# Altium schematic symbol library miniMMC_v2.SchLib: 21 symbols
Pins are listed as number, name and electrical type; pins without a type are passive.

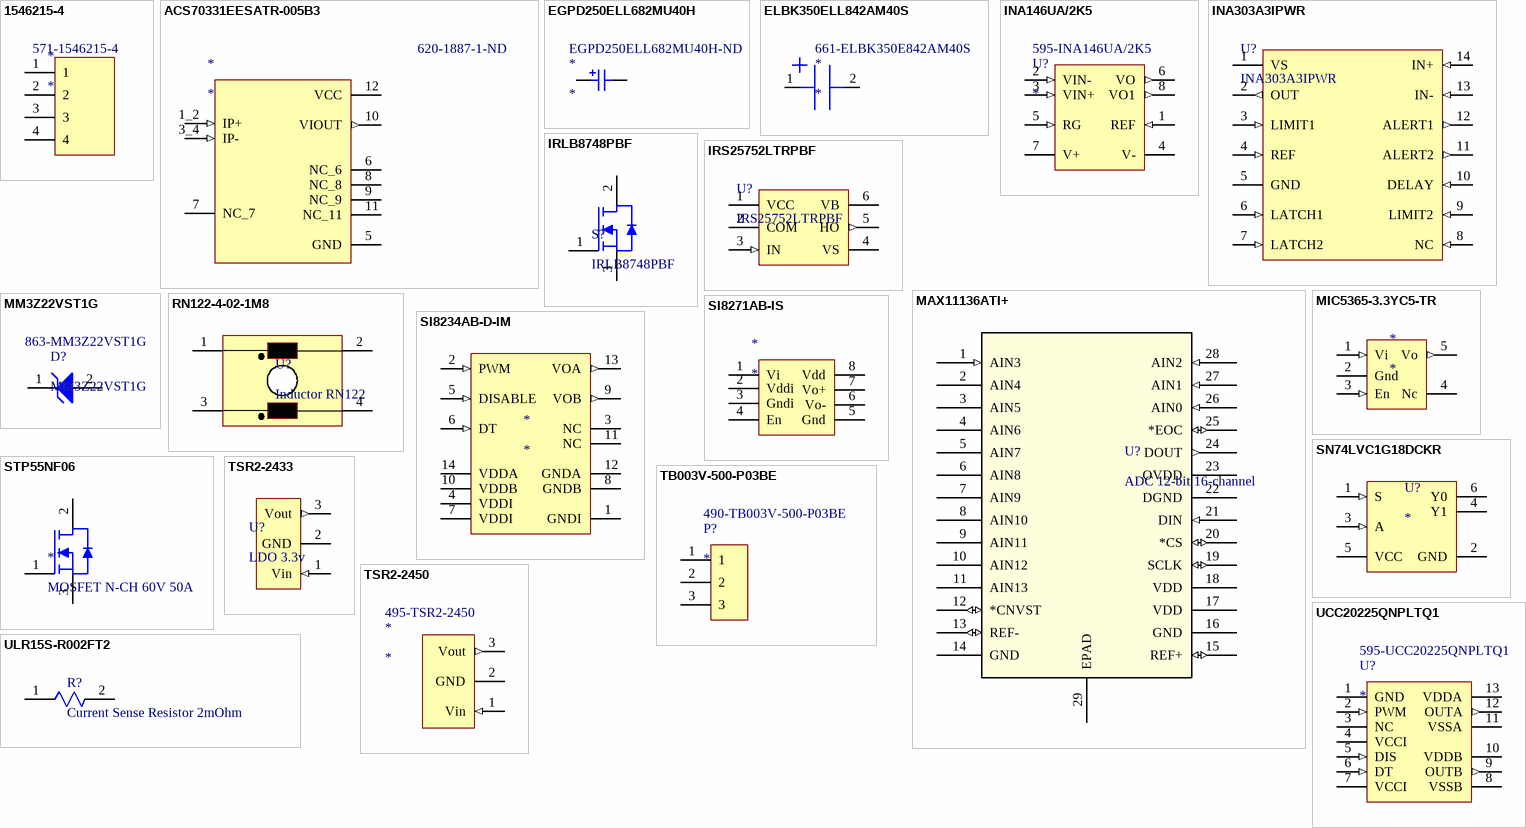
[diagram p0: symbols 1546215-4 to ULR15S-R002FT2]

## 1546215-4
designator *  Supplier Part Number 1: 571-1546215-4
Fixed Terminal Blocks TERMI-BLOK PCB MOUNT, 90 4P.; Manufacturer 1: TE Connectivity; Manufacturer Part Number 1: 1546215-4; Plating: Brass; Voltage Rating: 150V; Number of Positions: 4; Number of Levels: 1; Current: 10A; Connector Type: Receptacle; Closed End: No (Without); Max Supply Voltage (AC): 125V; Wire Gauge (Max): 30AWG; Pitch: 2.54mm; Tail Length: 3.4mm; Thread Size: M1.6; Supplier 1: Mouser; Stock 1: 1379; Pricing 1: 1=2.41000, 10=1.82000, 50=1.52000, 100=1.48000, 1000=1.07000, 10000=0.96600 (USD); RoHS: Yes; Mount: Through Hole; Color: Grey; Contact Plating: Tin; Contact Material: Brass; Housing Color: Grey; Housing Material: Polyamide; Min Operating Temperature: -40°C; Max Operating Temperature: 105°C; Package Quantity: 150; Number of Rows: 1; Packaging: Bulk; Number of Positions Per Level: 4; Voltage: 150V; Termination: Solder; Number of Circuits: 4; Number of Contacts: 4; Orientation: Straight; Max Current Rating: 10A; Interlock: No (Without); Screw Flange: No (Without); Screwless Terminal Block: No (Without); Side Stackable: No (Without); Current Rating: 10A; Length: 10.62mm; Wire Gauge (Min): 30AWG; Depth: 6.5mm; Radiation Hardening: No; ELV: Compliant; Flammability Rating: UL94 V-0; ComponentLink1URL: http://components.arrow.com/part/dataview/42525363S9094200N5665?src-supplier=Arrow; ComponentLink1Description: http://components.arrow.com/part/dataview/42525363S9094200N5665?src-supplier=Arrow; ComponentLink2URL: http://www.te.com/commerce/DocumentDelivery/DDEController?Action=srchrtrv&DocNm=1546215&DocType=Customer+Drawing&DocLang=English&src-supplier=Digi-Key; ComponentLink2Description: http://www.te.com/commerce/DocumentDelivery/DDEController?Action=srchrtrv&DocNm=1546215&DocType=Customer+Drawing&DocLang=English&src-supplier=Digi-Key; ComponentLink3URL: http://www.te.com/catalog/pn/en/1546215-4?RQPN=1546215-4&src-supplier=Mouser; ComponentLink3Description: http://www.te.com/catalog/pn/en/1546215-4?RQPN=1546215-4&src-supplier=Mouser; ComponentLink4URL: http://www.te.com/commerce/DocumentDelivery/DDEController?Action=showdoc&DocId=Catalog+Section%7F1308389_EUROSTYLE_TERMINAL_BLOCKS%7F0607%7Fpdf%7FEnglish%7FENG_CS_1308389_EUROSTYLE_TERMINAL_BLOCKS_0607.pdf&src-supplier=Avnet; ComponentLink4Description: http://www.te.com/commerce/DocumentDelivery/DDEController?Action=showdoc&DocId=Catalog+Section%7F1308389_EUROSTYLE_TERMINAL_BLOCKS%7F0607%7Fpdf%7FEnglish%7FENG_CS_1308389_EUROSTYLE_TERMINAL_BLOCKS_0607.pdf&src-supplier=Avnet
footprint 1546215-4 (Fixed Terminal Blocks TERMI-BLOK PCB MOUNT, 90 4P)
pins: 1, 2, 3, 4

## ACS70331EESATR-005B3
designator *  Supplier Part Number 1: 620-1887-1-ND
HIGH SENSITIVITY, 1 MHZ, GMR-BAS; Manufacturer 1: Allegro MicroSystems; Manufacturer Part Number 1: ACS70331EESATR-005B3; Supplier 1: Digi-Key; Stock 1: 2151; Pricing 1: 1=1.61000, 10=1.43600, 25=1.36280, 100=1.11940, 250=1.04636, 500=0.92468 (USD); RoHS: No; ComponentLink1URL: https://www.allegromicro.com/~/media/Files/Datasheets/ACS70331-Datasheet.ashx?src-supplier=Digi-Key; ComponentLink1Description: https://www.allegromicro.com/~/media/Files/Datasheets/ACS70331-Datasheet.ashx?src-supplier=Digi-Key
footprint ACS70331EESATR-005B3 (Current Sensor Current Sensor AC/DC Current 12-Pin QFN EP T/R)
pins: 1_2 IP+ (in), 3_4 IP- (in), 5 GND (power), 6 NC_6, 7 NC_7, 8 NC_8, 9 NC_9, 10 VIOUT (out), 11 NC_11, 12 VCC (power)

## EGPD250ELL682MU40H
designator *  Supplier Part Number 1: EGPD250ELL682MU40H-ND
Aluminum Electrolytic Capacitors - Leaded 25V 6800uF 20% Tol.; Manufacturer 1: United Chemi-Con; Manufacturer Part Number 1: EGPD250ELL682MU40H; Capacitance: 6.8mF; ESR (Equivalent Series Resistance): 22mR; Ripple Current: 3.73A; Life (Hours): 3000Hour; Lead/Base Style: Straight; Supplier 1: Digi-Key; Stock 1: 0; Pricing 1: 500=1.62532 (USD); RoHS: Yes; Mount: Through Hole; Case/Package: Radial; Min Operating Temperature: -40°C; Max Operating Temperature: 135°C; Package Quantity: 500; Packaging: Bulk; Voltage Rating: 25V; Tolerance: 20%; Termination: Radial; Voltage Rating (DC): 25V; Diameter: 14.5mm; Length: 40mm; Height: 14.5mm; Lead Pitch: 0.295inch; Height - Seated (Max): 1.634inch; Width: 14.5mm; ComponentLink1URL: http://www.mouser.com/ds/2/420/UCC_GPDDatasheet-340715.pdf?src-supplier=Mouser; ComponentLink1Description: http://www.mouser.com/ds/2/420/UCC_GPDDatasheet-340715.pdf?src-supplier=Mouser; ComponentLink2URL: http://www.chemi-con.co.jp/cgi-bin/CAT_DB/SEARCH/cat_db_al.cgi?e=e&j=p&pdfname=gpd&src-supplier=Digi-Key; ComponentLink2Description: http://www.chemi-con.co.jp/cgi-bin/CAT_DB/SEARCH/cat_db_al.cgi?e=e&j=p&pdfname=gpd&src-supplier=Digi-Key
footprint EGPD250ELL682MU40H (6800µF 25V Aluminum Electrolytic Capacitors Radial, Can 22mOhm @ 100kHz 3000 Hrs @ 135°C)
pins: 1, 2

## ELBK350ELL842AM40S
designator *  Supplier Part Number 1: 661-ELBK350E842AM40S
CAP POLY 8400UF 35V T/H; Manufacturer 1: United Chemi-Con; Manufacturer Part Number 1: ELBK350ELL842AM40S; Capacitance: 8.4mF; Tolerance: 30%; ESR (Equivalent Series Resistance): 15mR; Polarity: Polar; Ripple Current: 3.4A; Life (Hours): 5000Hour; Supplier 1: Mouser; Stock 1: 374; Pricing 1: 1=4.18000, 10=3.37000, 25=3.04000, 50=3.04000, 100=2.29000, 250=2.16000, 500=1.89000, 1000=1.82000, 2500=1.75000, 5000=1.72000, 10000=1.75000 (USD); RoHS: Yes; Mount: Through Hole; Case/Package: Radial; Min Operating Temperature: -55°C; Max Operating Temperature: 105°C; Package Quantity: 250; Packaging: Bulk; Voltage Rating: 35V; Lead Pitch: 0.295inch; Height - Seated (Max): 1.634inch; ComponentLink1URL: http://www.chemi-con.co.jp/cgi-bin/CAT_DB/SEARCH/cat_db_al.cgi?e=e&j=p&pdfname=lbk&src-supplier=Digi-Key; ComponentLink1Description: http://www.chemi-con.co.jp/cgi-bin/CAT_DB/SEARCH/cat_db_al.cgi?e=e&j=p&pdfname=lbk&src-supplier=Digi-Key
footprint ELBK350ELL842AM40S (Aluminium Electrolytic Capacitors - Radial Leaded 35V 8400uF +30%)
pins: 1, 2

## INA146UA/2K5
designator U?  Supplier Part Number 1: 595-INA146UA/2K5
IC OPAMP DIFF 550KHZ SGL 8SOIC; Manufacturer 1: Texas Instruments; Manufacturer Part Number 1: INA146UA/2K5; Min Dual Supply Voltage: 2.25V; Max Dual Supply Voltage: 18V; Common Mode Rejection Ratio: 70dB; Number of Channels: 1; Slew Rate: 0.45V/µs; Max Supply Voltage: 36V; Min Supply Voltage: 2.7V; Input Bias Current: 50nA; Input Offset Voltage (Vos): 10mV; Number of Elements: 2; Voltage Gain: 40dB; Nominal Supply Current: 700uA; Input Resistance: 110kR; Quiescent Current: 600uA; Operating Supply Current: 570uA; Output Current per Channel: 15mA; Max Input Voltage: 100V; Min Input Voltage: -100V; Supplier 1: Mouser; Stock 1: 1702; Pricing 1: 1=4.52000, 10=4.07000, 50=4.07000, 100=3.33000, 1000=2.39000, 10000=2.27000 (USD); RoHS: Yes; Case/Package: D; Number of Pins: 8; Weight: 0.002677oz; Min Operating Temperature: -40°C; Max Operating Temperature: 85°C; Packaging: Tape and Reel; Package Quantity: 2500; Number of Circuits: 1; Bandwidth: 550kHz; -3db Bandwidth: 550kHz; Radiation Hardening: No; Lead Free: Lead Free; ComponentLink1URL: https://datasheet.ciiva.com/15128/getdatasheetpartid-331066-15128765.pdf?src-supplier=Verical; ComponentLink1Description: https://datasheet.ciiva.com/15128/getdatasheetpartid-331066-15128765.pdf?src-supplier=Verical; ComponentLink2URL: https://datasheet.ciiva.com/2977/ina146-2977859.pdf?src-supplier=Avnet; ComponentLink2Description: https://datasheet.ciiva.com/2977/ina146-2977859.pdf?src-supplier=Avnet; ComponentLink3URL: https://datasheet.ciiva.com/1815/ina146-1815719.pdf?src-supplier=Digi-Key; ComponentLink3Description: https://datasheet.ciiva.com/1815/ina146-1815719.pdf?src-supplier=Digi-Key; ComponentLink4URL: https://datasheet.ciiva.com/26191/sbos109-26191114.pdf?src-supplier=Avnet+Europe; ComponentLink4Description: https://datasheet.ciiva.com/26191/sbos109-26191114.pdf?src-supplier=Avnet+Europe
footprint INA146UA/2K5
pins: 1 REF (in), 2 VIN- (in), 3 VIN+ (in), 4 V- (power), 5 RG (in), 6 VO (out), 7 V+ (power), 8 VO1 (out)

## INA303A3IPWR
designator U?
IC CURRENT SENSING AMP 14TSSOP; Manufacturer: Texas Instruments; Number of Channels: 2; Supplier 1: Digi-Key; Supplier Part Number 1: 296-51181-1-ND; Manufacturer Part Number: INA303A3IPWR; Stock 1: 1850; Pricing 1: 1 = 2.88000, 10 = 2.58900, 100 = 2.12100, 500 = 1.80554, 1000 = 1.52275 (USD); RoHS: No; Min Operating Temperature: -40°C; Max Operating Temperature: 125°C
footprint SOP127P600-8N (INA303A3IPWR  IC CURRENT SENSING AMP 14TSSOP)
pins: 1 VS (power), 2 OUT (out), 3 LIMIT1 (in), 4 REF (in), 5 GND, 6 LATCH1 (in), 7 LATCH2 (in), 8 NC (in), 9 LIMIT2 (in), 10 DELAY (in), 11 ALERT2 (out), 12 ALERT1 (out), 13 IN- (in), 14 IN+ (in)

## IRLB8748PBF
designator S?
Trans MOSFET N-CH 30V 92A 3-Pin(3+Tab) TO-220AB Tube; Manufacturer: International Rectifier; Rise Time: 96ns; Gate to Source Voltage (Vgs): 20V; Turn-On Delay Time: 14ns; Turn-Off Delay Time: 16ns; Fall Time: 34ns; Input Capacitance: 2.139nF; Max Power Dissipation: 75W; Rds On Max: 4.8mR; Drain to Source Resistance: 6.8mR; Nominal Vgs: 1.8V; Recovery Time: 35ns; Number of Elements: 1; Element Configuration: Single; Supplier 1: Mouser; Supplier Part Number 1: 942-IRLB8748PBF; Manufacturer Part Number: IRLB8748PBF; Stock 1: 3800; Pricing 1: 1 = 0.90000, 10 = 0.77000, 50 = 0.77000, 100 = 0.59200, 1000 = 0.41300, 10000 = 0.41300 (USD); RoHS: Yes; Mount: Through Hole; Case/Package: TO-220AB; Number of Pins: 3; Min Operating Temperature: -55°C; Max Operating Temperature: 175°C; Continuous Drain Current (ID): 92A; Packaging: Rail/Tube; Package Quantity: 50; Drain to Source Breakdown Voltage: 30V; Drain to Source Voltage (Vdss): 30V; Dual Supply Voltage: 30V; Power Dissipation: 75W; Termination: Through Hole; On-State Resistance: 4.8MR; Length: 10.67mm; Height: 16.51mm; Width: 4.83mm; REACH SVHC: No SVHC; Lead Free: Lead Free; ComponentLink1URL: https://datasheet.ciiva.com/14170/irlb8748pbf-eng-tds-14170629.pdf?src-supplier=Distrelec; ComponentLink1Description: https://datasheet.ciiva.com/14170/irlb8748pbf-eng-tds-14170629.pdf?src-supplier=Distrelec; ComponentLink2URL: https://datasheet.ciiva.com/4441/irlb8748pbf-50123-4441243.pdf?src-supplier=Mouser; ComponentLink2Description: https://datasheet.ciiva.com/4441/irlb8748pbf-50123-4441243.pdf?src-supplier=Mouser; ComponentLink3URL: https://datasheet.ciiva.com/26790/irlb8748pbf-26790238.pdf?src-supplier=IIIC; ComponentLink3Description: https://datasheet.ciiva.com/26790/irlb8748pbf-26790238.pdf?src-supplier=IIIC; ComponentLink4URL: https://datasheet.ciiva.com/7870/irlb8748pbf-7870437.pdf?src-supplier=Element14; ComponentLink4Description: https://datasheet.ciiva.com/7870/irlb8748pbf-7870437.pdf?src-supplier=Element14; ComponentLink5URL: https://datasheet.ciiva.com/6371/irlb8748pbf-6371532.pdf?src-supplier=Digi-Key; ComponentLink5Description: https://datasheet.ciiva.com/6371/irlb8748pbf-6371532.pdf?src-supplier=Digi-Key; ComponentLink6URL: https://datasheet.ciiva.com/8116/irlb8748pbf-8116749.pdf?src-supplier=Avnet; ComponentLink6Description: https://datasheet.ciiva.com/8116/irlb8748pbf-8116749.pdf?src-supplier=Avnet
footprint IRLB8748PBF
pins: 1, 2, 3

## IRS25752LTRPBF
designator U?
IC GATE DRIVER 1CH 600V SOT23; Manufacturer: International Rectifier; Number of Outputs: 1; Max Supply Voltage: 18V; Min Supply Voltage: 10V; Max Power Dissipation: 828mW; Max Output Current: 240mA; Rise Time: 85ns; Fall Time: 40ns; Supplier 1: Farnell; Supplier Part Number 1: 2710016; Manufacturer Part Number: IRS25752LTRPBF; Stock 1: 461; Pricing 1: 1 = 0.67600, 50 = 0.59100, 100 = 0.38100, 250 = 0.35600, 500 = 0.33000, 1000 = 0.30500, 2500 = 0.25800, 5000 = 0.25100 (GBP); RoHS: Yes; Mount: Surface Mount; Case/Package: SOT-23; Number of Pins: 6; Min Operating Temperature: -40°C; Max Operating Temperature: 125°C; Number of Drivers: 1; Length: 2.9mm; Height: 1.3mm; Width: 1.6mm; Lead Free: Lead Free; ComponentLink1URL: https://www.infineon.com/dgdl/irs25752lpbf.pdf?fileId=5546d462533600a40153567b388b2839&src-supplier=Digi-Key; ComponentLink1Description: https://www.infineon.com/dgdl/irs25752lpbf.pdf?fileId=5546d462533600a40153567b388b2839&src-supplier=Digi-Key
footprint SOT23127P600-8N (IRS25752LTRPBF MOSFET Driver)
pins: 1 VCC (power), 2 COM, 3 IN (in), 4 VS (power), 5 HO (out), 6 VB (power)

## MAX11136ATI+
designator U?, comment ADC 12-bit 16-channel
Analog to Digital Converters - ADC 500ksps, Low-Power, Serial 12-/10-/8-Bit; Manufacturer: Maxim; Manufacturer Part Number: MAX11136ATI+; Resolution: 12b; Sampling Rate: 500000S/s; Number of A/D Converters: 1; Polarity: Bipolar; Interface: SPI; Max Power Dissipation: 2.76W; Number of Bits: 12; Conversion Rate: 500KS/s; Signal to Noise Ratio (SNR): 72.6dB; Operating Supply Voltage: 3.6V; Supplier 1: Mouser; Supplier Part Number 1: 700-MAX11136ATI+; Stock 1: 178; Pricing 1: 1 = 3.17000, 10 = 3.17000, 50 = 2.75000, 100 = 2.60000, 1000 = 2.60000, 10000 = 2.60000 (USD); RoHS: Yes; Mount: Surface Mount; Number of Pins: 28; Min Operating Temperature: -40°C; Max Operating Temperature: 125°C; Packaging: Rail/Tube; Package Quantity: 60; Number of Converters: 1; Supply Type: Analog; Radiation Hardening: No; ComponentLink1URL: https://datasheet.ciiva.com/14260/max11135-max11143-14260649.pdf?src-supplier=Avnet; ComponentLink1Description: https://datasheet.ciiva.com/14260/max11135-max11143-14260649.pdf?src-supplier=Avnet; ComponentLink2URL: https://datasheet.ciiva.com/14085/max11135-max11143-14085931.pdf?src-supplier=Digi-Key; ComponentLink2Description: https://datasheet.ciiva.com/14085/max11135-max11143-14085931.pdf?src-supplier=Digi-Key
footprint 21-0140L_T285500
pins: 1 AIN3 (in), 2 AIN4 (power), 3 AIN5 (power), 4 AIN6 (power), 5 AIN7 (power), 6 AIN8 (power), 7 AIN9 (power), 8 AIN10 (power), 9 AIN11 (power), 10 AIN12 (power), 11 AIN13 (power), 12 *CNVST (io), 13 REF- (io), 14 GND (power), 15 REF+ (io), 16 GND (power), 17 VDD (power), 18 VDD (power), 19 SCLK (io), 20 *CS (io), 21 DIN (in), 22 DGND (power), 23 OVDD (power), 24 DOUT (out), 25 *EOC (io), 26 AIN0 (in), 27 AIN1 (in), 28 AIN2 (in), 29 EPAD

## MIC5365-3.3YC5-TR
designator *
MIC5365-3.3YC5 TR, Low Dropout Voltage Regulator, 0.15A, 3.3 V 2%, 2.5  5.5 Vin, 5-Pin SC-70; Manufacturer 1: Microchip Micrel; Manufacturer Part Number 1: MIC5365-3.3YC5-TR; Dropout Voltage: 155mV; Output Voltage: 3.3V; Output Current: 150mA; Number of Regulators: 1; Min Current Limit: 200mA; Max Input Voltage: 5.5V; Min Input Voltage: 2.5V; Polarity: Positive; Quiescent Current: 39uA; Power Supply Rejection Ratio (PSRR): 80dB; Output Type: Fixed; Supplier 1: Farnell; Stock 1: 1483; Pricing 1: 1=0.11000, 25=0.09480, 50=0.09020 (GBP); RoHS: Yes; Mount: Surface Mount; Case/Package: SC; Number of Pins: 5; Min Operating Temperature: -40°C; Max Operating Temperature: 125°C; Packaging: Tape and Reel; Number of Outputs: 1; Package Quantity: 1; Max Output Current: 150mA; Accuracy: 2%; Min Output Voltage: 3.3V; Output Voltage Accuracy: 2%; Length: 2.25mm; Height: 1mm; Width: 1.35mm; Radiation Hardening: No; Lead Free: Lead Free; ComponentLink1URL: https://datasheet.ciiva.com/16466/mic5365-16466603.pdf?src-supplier=Future+Electronics; ComponentLink1Description: https://datasheet.ciiva.com/16466/mic5365-16466603.pdf?src-supplier=Future+Electronics
footprint SC-70-5_MIC5365-3.3YC5-TR (SOT23, 5-Leads, Body 2.03x2.10mm, Pitch 0.65mm, IPC Medium Density)
pins: 1 Vi (in), 2 Gnd, 3 En (in), 4 Nc, 5 Vo (out)

## MM3Z22VST1G
designator D?  Supplier Part Number 1: 863-MM3Z22VST1G
Zener Voltage Regulator, 300 mW, Tight Tolerance Portfolio, 2-Pin SOD-323, Pb-Free, Tape and Reel; Manufacturer: On Semiconductor; P Max (W): 0.3; Mounting Technology: Surface Mount; DatasheetVersion: Rev. 21; ComponentLink3Description: Package Specification; ComponentLink1Description: Manufacturer URL; PartNumber: MM3Z22VST1G; ComponentLink1URL: http://www.onsemi.com/; ComponentLink2Description: Datasheet; ComponentLink2URL: http://www.onsemi.cn/pub_link/Collateral/MM3Z2V4ST1-D.PDF; PackageDescription: 2-Pin SOD, Body 1.7 x 1.25 mm; RoHS: Pb-Free; PackageVersion: Rev. H, 03/2007; PackageReference: SOD-323-2-477-02; ComponentLink3URL: http://www.onsemi.com/pub_link/Collateral/477-02.PDF.1; Packing: Tape and Reel; Supplier 1: Mouser
footprint ONSC-SOD-323-2-477-02_V (SOD, 2-Leads, Body 1.7x1.25mm)
footprint ONSC-SOD-323-2-477-02_V (SOD, 2-Leads, Body 1.7x1.25mm)
pins: 1, 2

## RN122-4-02-1M8
designator U?, comment Inductor RN122
CMC 1.8MH 4A 2LN TH; Manufacturer: Schaffner; Manufacturer Part Number: RN122-4-02-1M8; Number of Lines: 2; DC Resistance (DCR): 42mR; Voltage Rating (AC): 300V; Approvals: VDE; Supplier 1: Mouser; Supplier Part Number 1: 631-RN122-4-02-1M8; Stock 1: 75; Pricing 1: 1 = 2.17000, 10 = 2.00000, 50 = 1.57000, 100 = 1.40000, 1000 = 1.03000, 10000 = 1.00000 (USD); RoHS: Yes; Mount: Through Hole; Min Operating Temperature: -40°C; Max Operating Temperature: 100°C; Packaging: Tray; Max Current Rating: 4A; Length: 0.886inch; Height: 0.531inch; Width: 0.846inch; ComponentLink1URL: http://www.schaffner.com/products/download/product/datasheet/rn-series-common-mode-chokes-new/?src-supplier=Digi-Key; ComponentLink1Description: http://www.schaffner.com/products/download/product/datasheet/rn-series-common-mode-chokes-new/?src-supplier=Digi-Key
footprint RN122 (Inductor 4S 1.8mH 42mOhm)
pins: 1, 2, 3, 4

## SI8234AB-D-IM
designator *
SILICON LABS         SI8234AB-D-IM            Digital Isolator, 2 Channel, 30 ns, 4.5 V, 5.5 V, LGA, 14 Pins; Number of Channels: 2; Propagation Delay: 60ns; Max Output Current: 4A; Max Power Dissipation: 1.2W; Low Level Output Current: 2A; Pulse Width Distortion (PWD): 5.6ns; Min Supply Voltage: 4.5V; Max Supply Voltage: 5.5V; Output Current: 6mA; Rise Time: 12ns; Operating Supply Current: 3.5mA; Approvals: CSA; Supplier 1: Farnell; Manufacturer 1: Silicon Labs; Manufacturer Part Number 1: SI8234AB-D-IM; Stock 1: 118; Pricing 1: 1=1.89000, 10=1.67000, 25=1.61000, 50=1.57000, 100=1.56000, 250=1.55000, 500=1.54000, 1000=1.53000 (GBP); RoHS: Yes; Mount: Surface Mount; Case/Package: LGA; Number of Pins: 14; Weight: 0.017933oz; Min Operating Temperature: -40°C; Max Operating Temperature: 125°C; Packaging: Rail/Tube; Number of Outputs: 2; High Level Output Current: 4A; Package Quantity: 60; Number of Drivers: 2; Fall Time: 12ns; Turn-Off Delay Time: 60ns; Turn-On Delay Time: 60ns; REACH SVHC: Unknown; ComponentLink1URL: https://datasheet.ciiva.com/48511/si823x-48511415.pdf?src-supplier=Avnet; ComponentLink1Description: https://datasheet.ciiva.com/48511/si823x-48511415.pdf?src-supplier=Avnet
footprint SI8234AB-D-IM
pins: 1 GNDI (power) "Input-side ground terminal.", 2 PWM (in) "PWM input.", 3 NC "No connection.", 4 VDDI (power) "Input-side power supply terminal; connect to a source of 4.5 to 5.5 V.", 5 DISABLE (in) "Device Disable. When high, this input unconditionally drives outputs VOA, VOB LOW. It is strongly recommended that this input be connected to external logic level to avoid erroneous operation due to capacitive noise coupling.", 6 DT (in) "Dead time programming input. The value of the resistor connected from DT to ground sets the dead time between output transitions of VOA and VOB. Defaults to 1 ns dead time when connected to VDDI or left open (see "3.8. (See Datasheet)", 7 VDDI (power) "Input-side power supply terminal; connect to a source of 4.5 to 5.5 V.", 8 GNDB (power) "Ground terminal for Driver B.", 9 VOB (out) "Driver B output (low-side driver).", 10 VDDB (power) "Driver B power supply voltage terminal; connect to a source of 6.5 to 24 V.", 11 NC "No connection.", 12 GNDA (power) "Ground terminal for Driver A.", 13 VOA (out) "Driver A output (high-side driver).", 14 VDDA (power) "Driver A power supply voltage terminal; connect to a source of 6.5 to 24 V."

## SI8271AB-IS
designator *
DGTL ISO 2.5KV GATE DRIVER 8SOIC; Manufacturer 1: Silicon Labs; Manufacturer Part Number 1: SI8271AB-IS; Number of Channels: 1; Propagation Delay: 60ns; High Level Output Current: 4A; Low Level Output Current: 1.8A; Pulse Width Distortion (PWD): 8ns; Approvals: CSA,VDE,UR,CQC; Supplier 1: Farnell; Stock 1: 58; Pricing 1: 1=1.76000, 10=1.54000, 25=1.48000, 50=1.46000, 100=1.44000, 250=1.36000, 500=1.31000, 1000=1.30000 (GBP); RoHS: Yes; Mount: Surface Mount; Case/Package: SOIC; Min Operating Temperature: -40°C; Max Operating Temperature: 125°C; Packaging: Rail/Tube; Max Output Current: 4A; REACH SVHC: Unknown; ComponentLink1URL: http://www.farnell.com/datasheets/2197808.pdf?src-supplier=Farnell; ComponentLink1Description: http://www.farnell.com/datasheets/2197808.pdf?src-supplier=Farnell; ComponentLink2URL: https://www.silabs.com/documents/public/data-sheets/Si827x.pdf?src-supplier=Digi-Key; ComponentLink2Description: https://www.silabs.com/documents/public/data-sheets/Si827x.pdf?src-supplier=Digi-Key
footprint Si8271_SOIC-8 (SOIC, 8-Leads, Body 4.90x3.90mm, Pitch 1.27mm, IPC Medium Density)
pins: 1 Vi, 2 Vddi, 3 Gndi, 4 En, 5 Gnd, 6 Vo-, 7 Vo+, 8 Vdd

## SN74LVC1G18DCKR
designator U?
IC 1OF2 NON-INV DEMUX SC70-6; Manufacturer 1: Texas Instruments; Manufacturer Part Number 1: SN74LVC1G18DCKR; Logic Function: Demultiplexer; Number of Inputs: 1; Number of Outputs: 2; Propagation Delay: 12.7ns; Max Supply Voltage: 5.5V; Min Supply Voltage: 1.65V; High Level Output Current: -32mA; Low Level Output Current: 32mA; Polarity: Non-Inverting; Quiescent Current: 10uA; Supply Type: Single; Throw Configuration: SPDT; Supplier 1: Farnell; Stock 1: 1549; Pricing 1: 5=0.23900, 50=0.21900, 100=0.11800, 250=0.11400, 500=0.09400, 1000=0.07400, 5000=0.06900, 10000=0.06140 (GBP); RoHS: Yes; Mount: Surface Mount; Case/Package: SC; Number of Pins: 6; Weight: 8.8E-05oz; Contact Plating: Gold; Min Operating Temperature: -40°C; Max Operating Temperature: 85°C; Package Quantity: 3000; Packaging: Tape and Reel; Number of Elements: 1; Number of Input Lines: 1; Number of Output Lines: 2; Turn-On Delay Time: 12.7ns; Number of Gates: 1; Number of Bits: 1; Independent Circuits: 1; Number of Channels: 1; Number of Circuits: 1; Length: 2mm; Height: 0.9mm; Width: 1.25mm; Radiation Hardening: No; Lead Free: Lead Free; REACH SVHC: No SVHC; ComponentLink1URL: https://datasheet.ciiva.com/1888/sn74lvc1g18-1888578.pdf?src-supplier=Digi-Key; ComponentLink1Description: https://datasheet.ciiva.com/1888/sn74lvc1g18-1888578.pdf?src-supplier=Digi-Key; ComponentLink2URL: https://datasheet.ciiva.com/14294/sn74lvc1g18-14294837.pdf?src-supplier=Avnet; ComponentLink2Description: https://datasheet.ciiva.com/14294/sn74lvc1g18-14294837.pdf?src-supplier=Avnet; ComponentLink3URL: https://datasheet.ciiva.com/1888/sn74lvc1g18-1888577.pdf?src-supplier=Digi-Key; ComponentLink3Description: https://datasheet.ciiva.com/1888/sn74lvc1g18-1888577.pdf?src-supplier=Digi-Key; ComponentLink4URL: https://datasheet.ciiva.com/1888/sn74lvc1g18-1888579.pdf?src-supplier=Digi-Key; ComponentLink4Description: https://datasheet.ciiva.com/1888/sn74lvc1g18-1888579.pdf?src-supplier=Digi-Key; ComponentLink5URL: https://datasheet.ciiva.com/26208/sn74lvc1g18-26208185.pdf?src-supplier=Avnet+Europe; ComponentLink5Description: https://datasheet.ciiva.com/26208/sn74lvc1g18-26208185.pdf?src-supplier=Avnet+Europe; ComponentLink6URL: https://datasheet.ciiva.com/16464/sn74lvc1g18-16464491.pdf?src-supplier=Avnet+Asia; ComponentLink6Description: https://datasheet.ciiva.com/16464/sn74lvc1g18-16464491.pdf?src-supplier=Avnet+Asia; ComponentLink7URL: https://datasheet.ciiva.com/48702/001074840-da-01-en-ic-1of2-non-sn74lvc1g18dckr-sc-70-6-tid-48702459.pdf?src-supplier=Conrad; ComponentLink7Description: https://datasheet.ciiva.com/48702/001074840-da-01-en-ic-1of2-non-sn74lvc1g18dckr-sc-70-6-tid-48702459.pdf?src-supplier=Conrad
footprint SN74LVC1G18DCKR
pins: 1 S (in), 2 GND (power), 3 A (in), 4 Y1 (hiz), 5 VCC (power), 6 Y0 (hiz)

## STP55NF06
designator *, comment MOSFET N-CH 60V 50A
Trans MOSFET N-CH 60V 50A 3-Pin(3+Tab) TO-220 Tube; Manufacturer: STMicroelectronics; Manufacturer Part Number: STP55NF06; Rise Time: 50ns; Turn-Off Delay Time: 36ns; Turn-On Delay Time: 20ns; Gate to Source Voltage (Vgs): 20V; Fall Time: 15ns; Input Capacitance: 1.3nF; Number of Elements: 1; Max Power Dissipation: 110W; Nominal Vgs: 3V; Rds On Max: 18mR; Element Configuration: Single; Supplier 1: Farnell; Supplier Part Number 1: 9803211; Stock 1: 7855; Pricing 1: 5 = 0.84200, 25 = 0.75600, 100 = 0.58000, 250 = 0.54800, 500 = 0.51400, 1000 = 0.36000, 5000 = 0.35300 (GBP); RoHS: Yes; Mount: Through Hole; Case/Package: TO-220; Number of Pins: 3; Weight: 0.01lb; Min Operating Temperature: -55°C; Max Operating Temperature: 175°C; Continuous Drain Current (ID): 50A; Packaging: Rail/Tube; Package Quantity: 50; Drain to Source Breakdown Voltage: 60V; Power Dissipation: 110W; Drain to Source Resistance: 18mR; Drain to Source Voltage (Vdss): 60V; Threshold Voltage: 3V; On-State Resistance: 18mR; Voltage Rating (DC): 60V; Current Rating: 50A; Dual Supply Voltage: 60V; Length: 10.4mm; Height: 9.15mm; Width: 4.6mm; Radiation Hardening: No; REACH SVHC: No SVHC; Lead Free: Lead Free; ComponentLink1URL: https://datasheet.ciiva.com/15137/getdatasheetpartid-100444-15137856.pdf?src-supplier=Verical; ComponentLink1Description: https://datasheet.ciiva.com/15137/getdatasheetpartid-100444-15137856.pdf?src-supplier=Verical; ComponentLink2URL: https://datasheet.ciiva.com/16984/0900766b8047601a-16984739.pdf?src-supplier=Allied+Electronics; ComponentLink2Description: https://datasheet.ciiva.com/16984/0900766b8047601a-16984739.pdf?src-supplier=Allied+Electronics; ComponentLink3URL: https://datasheet.ciiva.com/19479/2001390-19479720.pdf?src-supplier=Jameco; ComponentLink3Description: https://datasheet.ciiva.com/19479/2001390-19479720.pdf?src-supplier=Jameco; ComponentLink4URL: https://datasheet.ciiva.com/26791/stp55nf06-26791123.pdf?src-supplier=IIIC; ComponentLink4Description: https://datasheet.ciiva.com/26791/stp55nf06-26791123.pdf?src-supplier=IIIC; ComponentLink5URL: https://datasheet.ciiva.com/22655/1689896-22655974.pdf?src-supplier=Element14; ComponentLink5Description: https://datasheet.ciiva.com/22655/1689896-22655974.pdf?src-supplier=Element14; ComponentLink6URL: https://datasheet.ciiva.com/6380/cd00002311-6380250.pdf?src-supplier=Digi-Key; ComponentLink6Description: https://datasheet.ciiva.com/6380/cd00002311-6380250.pdf?src-supplier=Digi-Key; ComponentLink7URL: https://datasheet.ciiva.com/16491/cd00002311-16491445.pdf?src-supplier=Future+Electronics; ComponentLink7Description: https://datasheet.ciiva.com/16491/cd00002311-16491445.pdf?src-supplier=Future+Electronics; ComponentLink8URL: https://datasheet.ciiva.com/17312/cd00002311-17312885.pdf?src-supplier=Avnet+Europe; ComponentLink8Description: https://datasheet.ciiva.com/17312/cd00002311-17312885.pdf?src-supplier=Avnet+Europe
footprint STP55NF06
pins: 1, 2, 3

## TB003V-500-P03BE
designator P?  Supplier Part Number 1: 490-TB003V-500-P03BE
Conn Terminal Block 3 POS 5mm Solder RA Thru-Hole 10A/Contact Bag; Manufacturer 1: CUI; Manufacturer Part Number 1: TB003V-500-P03BE; Supplier 1: Mouser; Stock 1: 977; Pricing 1: 1=0.83000, 10=0.39800, 50=0.39800, 100=0.33200, 500=0.31500, 1000=0.28200, 2500=0.26500, 5000=0.22000, 10000=0.21500, 25000=0.21100 (USD)
footprint TB003v_5
pins: 1, 2, 3

## TSR2-2433
designator U?, comment LDO 3.3v
DC/DC CONVERTER 3.3V 6.6W; Manufacturer: Traco Power; Manufacturer Part Number: TSR2-2433; Supplier 1: RSComponents; Supplier Part Number 1: 9068478; Stock 1: 11; Pricing 1: 1 = 9.28000, 5 = 8.81000, 10 = 8.54000, 25 = 8.26000, 50 = 7.89000 (GBP); RoHS: No; ComponentLink1URL: https://www.tracopower.com/products/tsr2.pdf?src-supplier=Digi-Key; ComponentLink1Description: https://www.tracopower.com/products/tsr2.pdf?src-supplier=Digi-Key
footprint tsr_2_2433 (DC/DC converter 4.75-36VDC 3.3V 2A)
pins: 1 Vin (in), 2 GND, 3 Vout (out)

## TSR2-2450
designator *  Supplier Part Number 1: 495-TSR2-2450
DC DC CONVERTER 5V 10W; Manufacturer 1: Traco Power; Manufacturer Part Number 1: TSR2-2450; Supplier 1: Mouser; Stock 1: 411; Pricing 1: 1=12.50000, 10=11.05000, 20=10.88000, 50=10.54000, 100=9.52000, 200=9.35000, 500=9.18000, 1000=9.04000, 2000=8.84000, 10000=9.18000 (USD); RoHS: No; Mount: Through Hole; Case/Package: SIP; ComponentLink1URL: https://www.tracopower.com/products/tsr2.pdf?src-supplier=Digi-Key; ComponentLink1Description: https://www.tracopower.com/products/tsr2.pdf?src-supplier=Digi-Key
footprint TSR-2-2450
pins: 1 Vin (in), 2 GND, 3 Vout (out)

## UCC20225QNPLTQ1
designator U?  Supplier Part Number 1: 595-UCC20225QNPLTQ1
Isolated dual-channel gate driver with single input in LGA for automotive 48V systems 13-VLGA -40 to 125; Manufacturer 1: Texas Instruments; Manufacturer Part Number 1: UCC20225QNPLTQ1; Supplier 1: Mouser; Stock 1: 494; Pricing 1: 1=6.93000, 10=6.27000, 25=5.80000, 50=5.80000, 100=5.18000, 250=4.92000, 500=4.51000, 1000=3.93000, 2500=3.78000, 5000=3.50000, 10000=3.93000 (USD); ComponentLink1URL: https://octopart.com/click/track?ai=2118&ct=datasheets&sig=0a87e8a&at=physicalpart&sid=370&ppid=97172364&hlid=26818647&src-supplier=TI+store; ComponentLink1Description: https://octopart.com/click/track?ai=2118&ct=datasheets&sig=0a87e8a&at=physicalpart&sid=370&ppid=97172364&hlid=26818647&src-supplier=TI+store
footprint UCC20255-Q1
pins: 1 GND, 2 PWM (in), 3 NC, 4 VCCI (power), 5 DIS (in), 6 DT (in), 7 VCCI (power), 8 VSSB (power), 9 OUTB (out), 10 VDDB (power), 11 VSSA (power), 12 OUTA (out), 13 VDDA (power)

## ULR15S-R002FT2
designator R?, comment Current Sense Resistor 2mOhm
WELWYN         ULR15S-R002FT2             SMD Current Sense Resistor, 0.002 ohm, 2010 [5025 Metric], 1.5 W,  1%, ULR Series; Manufacturer: TT Welwyn; Resistance: 2mR; Power Rating: 1.5W; Voltage Rating: 200V; Temperature Coefficient: 50ppm/°C; Supplier 1: Farnell; Supplier Part Number 1: 1621979; Manufacturer Part Number: ULR15S-R002FT2; Stock 1: 6237; Pricing 1: 5 = 0.37100, 50 = 0.23600, 250 = 0.20300, 500 = 0.18700, 1000 = 0.17000, 2000 = 0.14900, 10000 = 0.13100, 20000 = 0.12800 (GBP); RoHS: Yes; Case/Package: 2010; Number of Pins: 2; Case Code (Metric): 5025; Case Code (Imperial): 2010; Min Operating Temperature: -55°C; Max Operating Temperature: 170°C; Packaging: Cut Tape; Tolerance: 1%; Composition: Metal Strip; Military Standard: Not; Voltage Rating (DC): 200V; Length: 5.08mm; Depth: 2.54mm; Width: 2.54mm; REACH SVHC: No SVHC; ComponentLink1URL: https://datasheet.ciiva.com/22708/1704812-22708445.pdf?src-supplier=Element14; ComponentLink1Description: https://datasheet.ciiva.com/22708/1704812-22708445.pdf?src-supplier=Element14
footprint ULR15S-R002FT2
pins: 1, 2